# EAGLE library part PIC10F206 (library SamacSys_Parts)
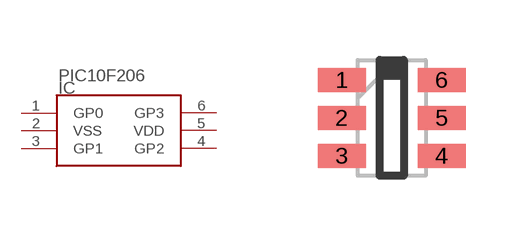
[diagram p5: symbol with the pads of SOT23-6; footprint SOT23-6]

Designator prefix IC

## PIC10F206  [SOT23-6]
1  GP0  pwr
2  VSS  pwr
3  GP1
4  GP2
5  VDD  pwr
6  GP3  pwr

## Footprint SOT23-6 (pad centres in mm)
5-Lead SOT-23
smd 1.2 x 0.6: 1 -1.25,0.95; 2 -1.25,0; 3 -1.25,-0.95; 4 1.25,-0.95; 5 1.25,0; 6 1.25,0.95